# EAGLE library part MT88L70A (library zarlink)
DTMF Receiver 3V operation
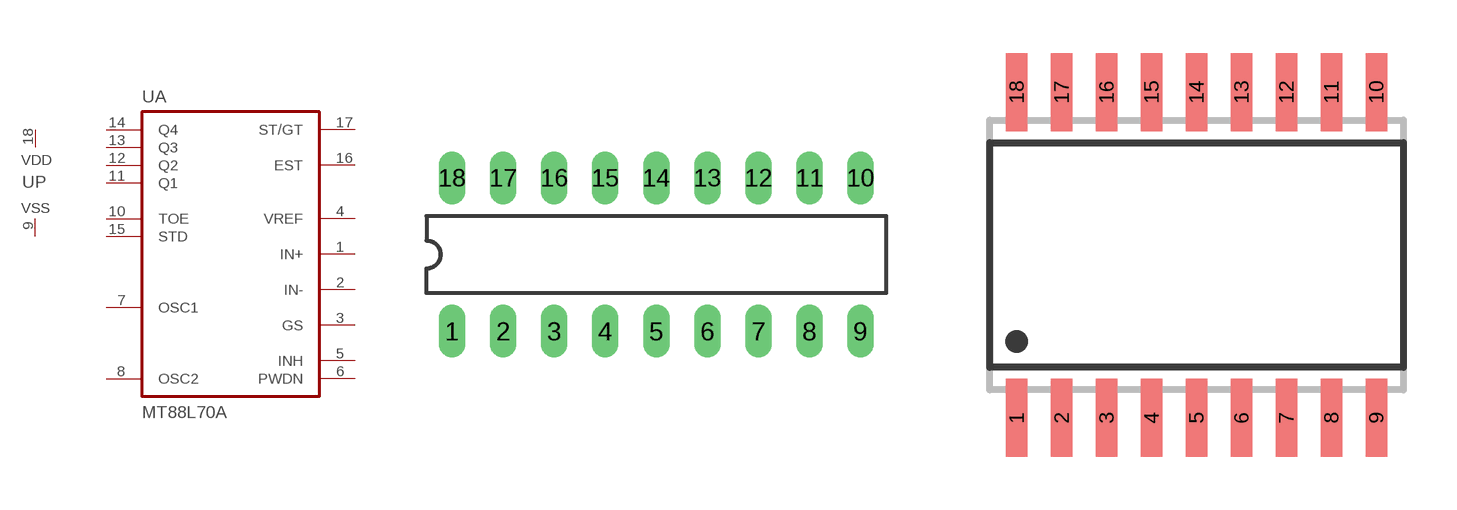
[diagram p1: symbol with the pads of DIL18; footprints DIL18, SO18W]

Designator prefix U; gates A=MT8870 P=VDDVSS

## MT88L70AE  [DIL18]
1  A:IN+  in
2  A:IN-  in
3  A:GS  in
4  A:VREF  out
5  A:INH  in
6  A:PWDN  in
7  A:OSC1  in
8  A:OSC2
9  P:VSS  pwr
10  A:TOE  in
11  A:Q1  out
12  A:Q2  out
13  A:Q3  out
14  A:Q4  out
15  A:STD  in
16  A:EST  in
17  A:ST/GT
18  P:VDD  pwr

## MT88L70AS  [SO18W]
Pads as for DIL18

## MT88L70AN  [SSOP20-DB]
1  A:IN+  in
2  A:IN-  in
3  A:GS  in
4  A:VREF  out
5  A:INH  in
6  A:PWDN  in
8  A:OSC1  in
9  A:OSC2
10  P:VSS  pwr
11  A:TOE  in
12  A:Q1  out
13  A:Q2  out
14  A:Q3  out
15  A:Q4  out
17  A:STD  in
18  A:EST  in
19  A:ST/GT
20  P:VDD  pwr

## Footprint DIL18 (pad centres in mm)
Dual In Line Package
drill 0.813 long: 1 -10.16,-3.81; 2 -7.62,-3.81; 3 -5.08,-3.81; 4 -2.54,-3.81; 5 0,-3.81; 6 2.54,-3.81; 7 5.08,-3.81; 8 7.62,-3.81; 9 10.16,-3.81; 10 10.16,3.81; 11 7.62,3.81; 12 5.08,3.81; 13 2.54,3.81; 14 0,3.81; 15 -2.54,3.81; 16 -5.08,3.81; 17 -7.62,3.81; 18 -10.16,3.81

## Footprint SO18W (pad centres in mm)
SMALL OUTLINE INTEGRATED CIRCUIT wide body 7.5 mm
smd 0.6 x 2.2: 1 -5.08,-4.6; 2 -3.81,-4.6; 3 -2.54,-4.6; 4 -1.27,-4.6; 5 0,-4.6; 6 1.27,-4.6; 7 2.54,-4.6; 8 3.81,-4.6; 9 5.08,-4.6; 10 5.08,4.6; 11 3.81,4.6; 12 2.54,4.6; 13 1.27,4.6; 14 0,4.6; 15 -1.27,4.6; 16 -2.54,4.6; 17 -3.81,4.6; 18 -5.08,4.6

## Footprint SSOP20-DB (pad centres in mm)
Small Shrink Outline Package 7.5 x 5.6 mm body, JEDEC MO-150
smd 0.4 x 1.5: 1 -2.925,-3.75; 2 -2.275,-3.75; 3 -1.625,-3.75; 4 -0.975,-3.75; 5 -0.325,-3.75; 6 0.325,-3.75; 7 0.975,-3.75; 8 1.625,-3.75; 9 2.275,-3.75; 10 2.925,-3.75; 11 2.925,3.75; 12 2.275,3.75; 13 1.625,3.75; 14 0.975,3.75; 15 0.325,3.75; 16 -0.325,3.75; 17 -0.975,3.75; 18 -1.625,3.75; 19 -2.275,3.75; 20 -2.925,3.75